# Altium schematic symbol library IMPORTS.SchLib: 1 symbol
Pins are listed as number, name and electrical type; pins without a type are passive.

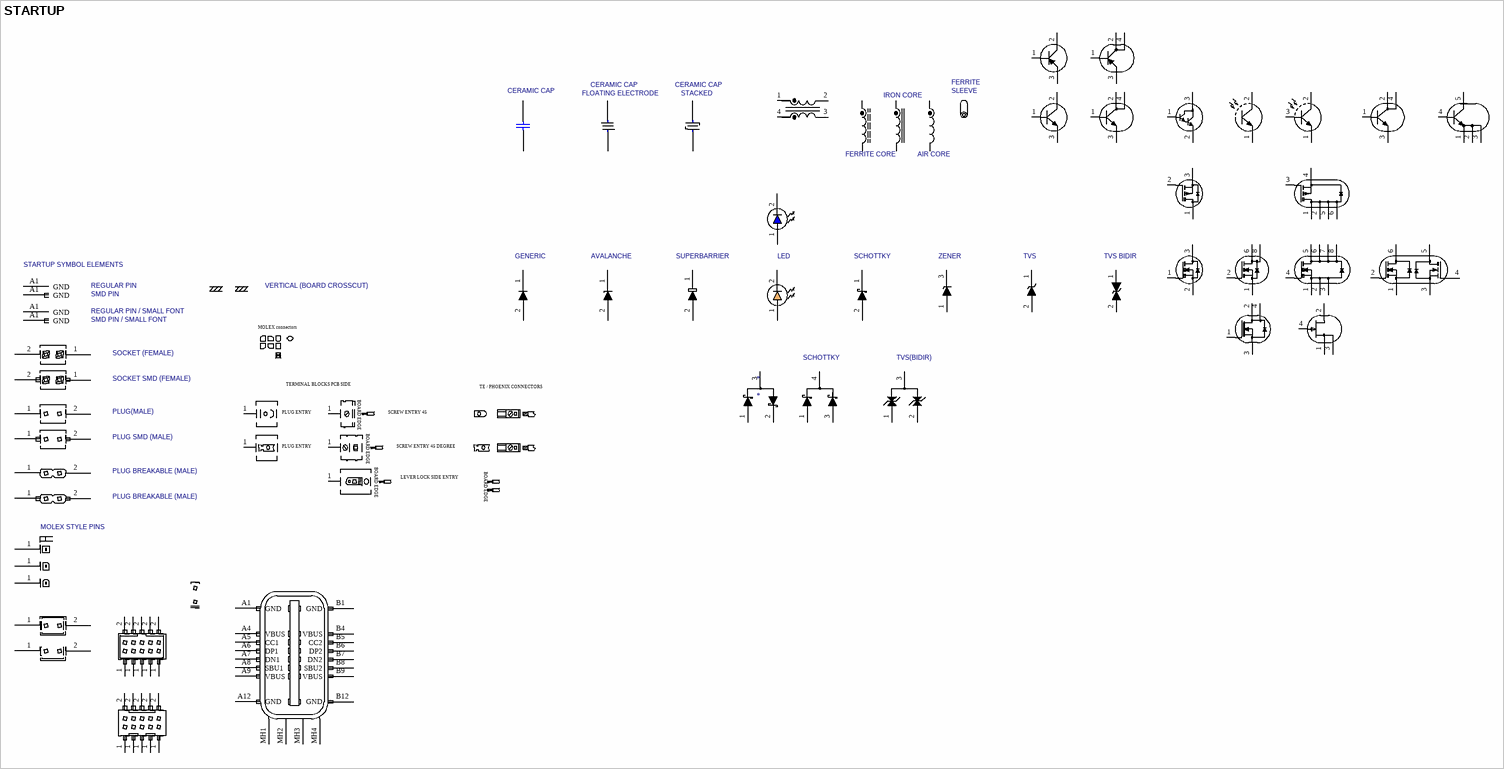
[diagram p0: symbol STARTUP]

## STARTUP
designator *
STARTUP
pins: 1, 1, 1, 1, 1, 1, 1, 1, 1, 1 A, 1 A, 1 A, 1 K, 1 K, 1 K, 1 A, 1 K, 1 K, 1 K, 1 K, 1 A, 1, 1, 1, 1, 1, 1, 1, 1 B, 1 B, 1 B, 1, 1, 1 D, 1 D, 1 B, 1 B, 1 S, 1 S, 1 G1, 1 G1, 1 S1, 1 S, 1, 1, 1, 1, 1, 1, 1, 1, 1, 1, 1, 1, 1, 1, 1, 1, 1, 1 B, 1 E, 2, 2 K, 2 K, 2 A, 2 A, 2 A, 2 A, 2 A, 2 A, 2 A, 2 K, 2, 2, 2, 2, 2, 2, 2, 2 C, 2 C, 2 E, 2, 2, 2 D, 2 G, 2 C, 2 C, 2 G1, 2 S, 2 S, 2 D, 2 G1, 2 D, 2, 2, 2, 2, 2, 2, 2, 2, 2, 2, 2, 2, 2, 2, 2, 2, 2, 2 C, 2 E, 3 AK, 3 A, 3 AK, 3 K, 3, 3 E, 3 E, 3 C, 3, 3 G1, 3 S, 3 E, 3 E, 3 S, 3 D, 3 S, 3 S2, 3 S, 3 E, 3 E, 4 K, 4, 4 E, 4 S, 4 C, 4 G1, 4 D, 4 G2, 4 G, 4 E, 4 B, 5 D, 5 D, 5 D2, 5 C, 6 D, 6 D, 6 D, 6 D1, 7 D, 8 D, 8 D, A1 GND, A1 GND, A1 GND, A1 GND, A1 GND, A4 VBUS, A5 CC1, A6 DP1, A7 DN1, A8 SBU1, A9 VBUS, A12 GND, B1 GND, B4 VBUS, B5 CC2, B6 DP2, B7 DN2, B8 SBU2, B9 VBUS, B12 GND, MH1 MH, MH2 MH, MH3 MH, MH4 MH
text: FERRITE; CERAMIC CAP; SLEEVE; FLOATING ELECTRODE; STACKED; IRON CORE; FERRITE CORE; AIR CORE; GENERIC; AVALANCHE; SUPERBARRIER; LED; SCHOTTKY; ZENER; TVS; TVS BIDIR; STARTUP SYMBOL ELEMENTS; REGULAR PIN; VERTICAL (BOARD CROSSCUT); SMD PIN; REGULAR PIN / SMALL FONT; SMD PIN / SMALL FONT; MOLEX connectors; SOCKET (FEMALE); TVS(BIDIR); SOCKET SMD (FEMALE); TERMINAL BLOCKS PCB SIDE; TE / PHOENIX CONNECTORS; BOARD EDGE; PLUG(MALE); PLUG ENTRY; SCREW ENTRY 45; PLUG SMD (MALE); SCREW ENTRY 45 DEGREE; PLUG BREAKABLE (MALE); LEVER LOCK SIDE ENTRY; MOLEX STYLE PINS